# EAGLE library part LT8652SEVTRPBF (library MF_IC_Power)
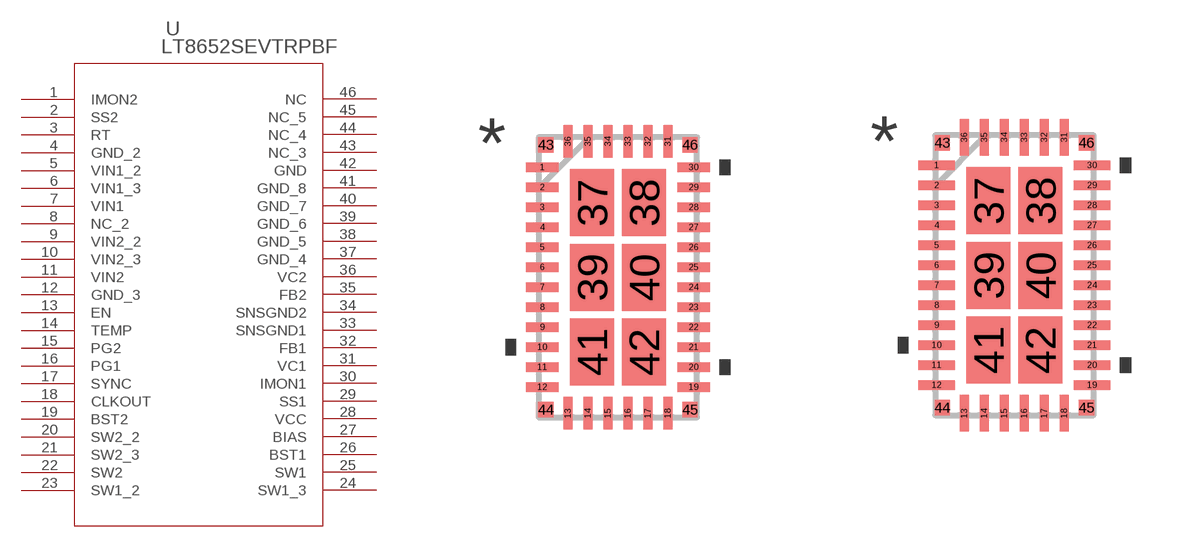
[diagram p3: symbol with the pads of 05-08-1525_ADI; footprints 05-08-1525_ADI, 05-08-1525_ADI-M]

Designator prefix U

## LT8652SEVTRPBF (COPYRIGHT: Copyright (C) 2025 Ultra Librarian. All rights reserved.; MANUFACTURER_PART_NUMBER: LT8652SEV#TRPBF; MFR_NAME: Analog Devices Inc; TYPE: Power Management)  [05-08-1525_ADI]
1  IMON2
2  SS2
3  RT  pas
4  GND_2  pas
5  VIN1_2  pwr
6  VIN1_3  pwr
7  VIN1  pwr
8  NC_2  nc
9  VIN2_2  pwr
10  VIN2_3  pwr
11  VIN2  pwr
12  GND_3  pas
13  EN  in
14  TEMP  pas
15  PG2
16  PG1
17  SYNC  in
18  CLKOUT  out
19  BST2  pwr
20  SW2_2  pwr
21  SW2_3  pwr
22  SW2  pwr
23  SW1_2  pwr
24  SW1_3  pwr
25  SW1  pwr
26  BST1  pwr
27  BIAS  pwr
28  VCC  pwr
29  SS1
30  IMON1
31  VC1
32  FB1  in
33  SNSGND1  pas
34  SNSGND2  pas
35  FB2  in
36  VC2
37  GND_4  pas
38  GND_5  pas
39  GND_6  pas
40  GND_7  pas
41  GND_8  pas
42  GND  pas
43  NC_3  nc
44  NC_4  nc
45  NC_5  nc
46  NC  nc

## LT8652SEVTRPBF05-08-1525_ADI-M (COPYRIGHT: Copyright (C) 2025 Ultra Librarian. All rights reserved.; MANUFACTURER_PART_NUMBER: LT8652SEV#TRPBF; MFR_NAME: Analog Devices Inc; TYPE: Power Management)  [05-08-1525_ADI-M]
Pads as for 05-08-1525_ADI

## LT8652SEVTRPBF05-08-1525_ADI-L (COPYRIGHT: Copyright (C) 2025 Ultra Librarian. All rights reserved.; MANUFACTURER_PART_NUMBER: LT8652SEV#TRPBF; MFR_NAME: Analog Devices Inc; TYPE: Power Management)  [05-08-1525_ADI-L]
Pads as for 05-08-1525_ADI

## Footprint 05-08-1525_ADI (pad centres in mm)
smd 0.813 x 0.229: 1 -1.892,2.75; 2 -1.892,2.25; 3 -1.892,1.75; 4 -1.892,1.25; 5 -1.892,0.75; 6 -1.892,0.25; 7 -1.892,-0.25; 8 -1.892,-0.75; 9 -1.892,-1.25; 10 -1.892,-1.75; 11 -1.892,-2.25; 12 -1.892,-2.75; 19 1.892,-2.75; 20 1.892,-2.25; 21 1.892,-1.75; 22 1.892,-1.25; 23 1.892,-0.75; 24 1.892,-0.25; 25 1.892,0.25; 26 1.892,0.75; 27 1.892,1.25; 28 1.892,1.75; 29 1.892,2.25; 30 1.892,2.75
smd 0.229 x 0.813: 13 -1.25,-3.404; 14 -0.75,-3.404; 15 -0.25,-3.404; 16 0.25,-3.404; 17 0.75,-3.404; 18 1.25,-3.404; 31 1.25,3.404; 32 0.75,3.404; 33 0.25,3.404; 34 -0.25,3.404; 35 -0.75,3.404; 36 -1.25,3.404
smd 1.092 x 1.676: 37 -0.65,1.87; 38 0.65,1.87; 39 -0.65,0; 40 0.65,0; 41 -0.65,-1.87; 42 0.65,-1.87
smd 0.381 x 0.381: 43 -1.803,3.315; 44 -1.803,-3.315; 45 1.803,-3.315; 46 1.803,3.315

## Footprint 05-08-1525_ADI-M (pad centres in mm)
smd 0.914 x 0.229: 1 -1.943,2.75; 2 -1.943,2.25; 3 -1.943,1.75; 4 -1.943,1.25; 5 -1.943,0.75; 6 -1.943,0.25; 7 -1.943,-0.25; 8 -1.943,-0.75; 9 -1.943,-1.25; 10 -1.943,-1.75; 11 -1.943,-2.25; 12 -1.943,-2.75; 19 1.943,-2.75; 20 1.943,-2.25; 21 1.943,-1.75; 22 1.943,-1.25; 23 1.943,-0.75; 24 1.943,-0.25; 25 1.943,0.25; 26 1.943,0.75; 27 1.943,1.25; 28 1.943,1.75; 29 1.943,2.25; 30 1.943,2.75
smd 0.229 x 0.914: 13 -1.25,-3.454; 14 -0.75,-3.454; 15 -0.25,-3.454; 16 0.25,-3.454; 17 0.75,-3.454; 18 1.25,-3.454; 31 1.25,3.454; 32 0.75,3.454; 33 0.25,3.454; 34 -0.25,3.454; 35 -0.75,3.454; 36 -1.25,3.454
smd 1.092 x 1.676: 37 -0.65,1.87; 38 0.65,1.87; 39 -0.65,0; 40 0.65,0; 41 -0.65,-1.87; 42 0.65,-1.87
smd 0.381 x 0.381: 43 -1.803,3.315; 44 -1.803,-3.315; 45 1.803,-3.315; 46 1.803,3.315

## Footprint 05-08-1525_ADI-L (pad centres in mm)
smd 0.711 x 0.229: 1 -1.841,2.75; 2 -1.841,2.25; 3 -1.841,1.75; 4 -1.841,1.25; 5 -1.841,0.75; 6 -1.841,0.25; 7 -1.841,-0.25; 8 -1.841,-0.75; 9 -1.841,-1.25; 10 -1.841,-1.75; 11 -1.841,-2.25; 12 -1.841,-2.75; 19 1.841,-2.75; 20 1.841,-2.25; 21 1.841,-1.75; 22 1.841,-1.25; 23 1.841,-0.75; 24 1.841,-0.25; 25 1.841,0.25; 26 1.841,0.75; 27 1.841,1.25; 28 1.841,1.75; 29 1.841,2.25; 30 1.841,2.75
smd 0.229 x 0.711: 13 -1.25,-3.353; 14 -0.75,-3.353; 15 -0.25,-3.353; 16 0.25,-3.353; 17 0.75,-3.353; 18 1.25,-3.353; 31 1.25,3.353; 32 0.75,3.353; 33 0.25,3.353; 34 -0.25,3.353; 35 -0.75,3.353; 36 -1.25,3.353
smd 1.092 x 1.676: 37 -0.65,1.87; 38 0.65,1.87; 39 -0.65,0; 40 0.65,0; 41 -0.65,-1.87; 42 0.65,-1.87
smd 0.381 x 0.381: 43 -1.803,3.315; 44 -1.803,-3.315; 45 1.803,-3.315; 46 1.803,3.315